# Altium schematic symbol library SCH - MPU - TI - TI AM62x ALW.SchLib: 1 symbol
Pins are listed as number, name and electrical type; pins without a type are passive.

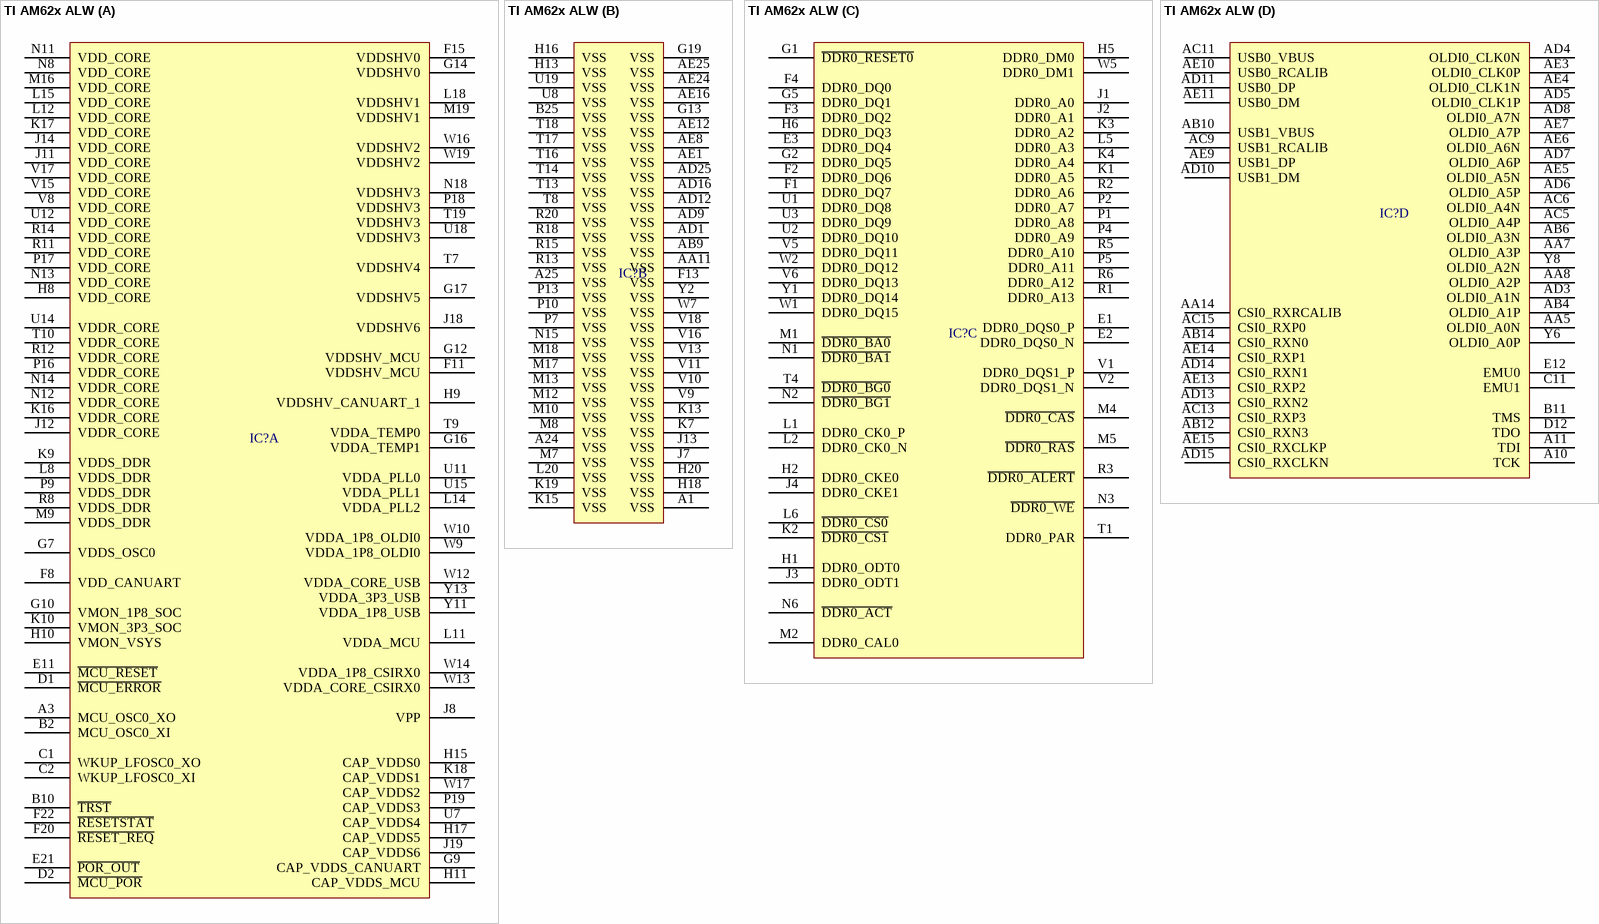
[diagram p0: symbol TI AM62x ALW]

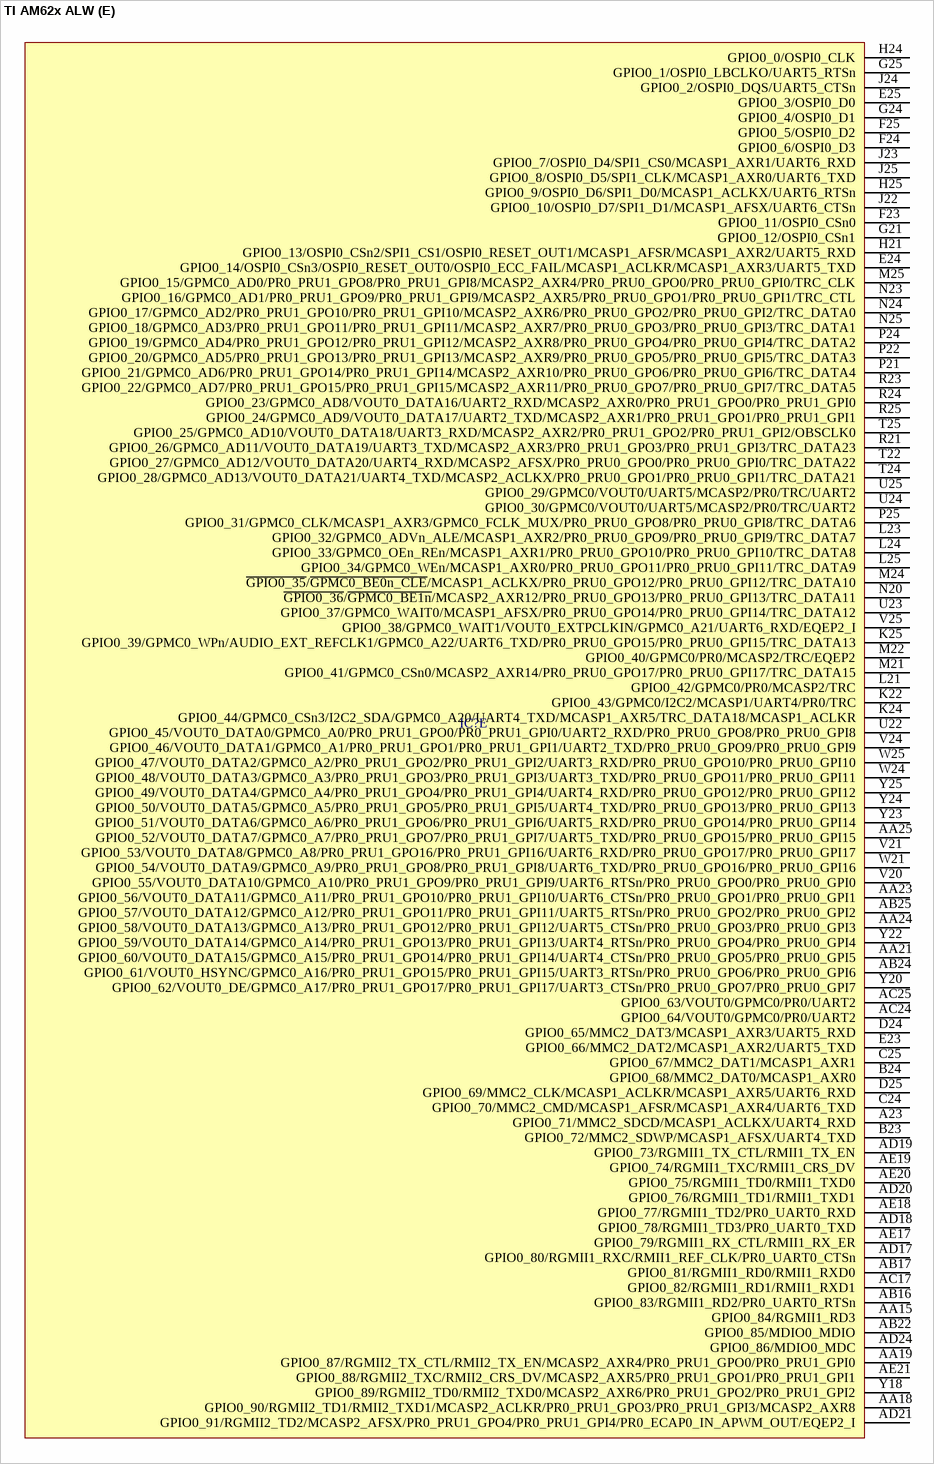
[diagram p1: symbol TI AM62x ALW]

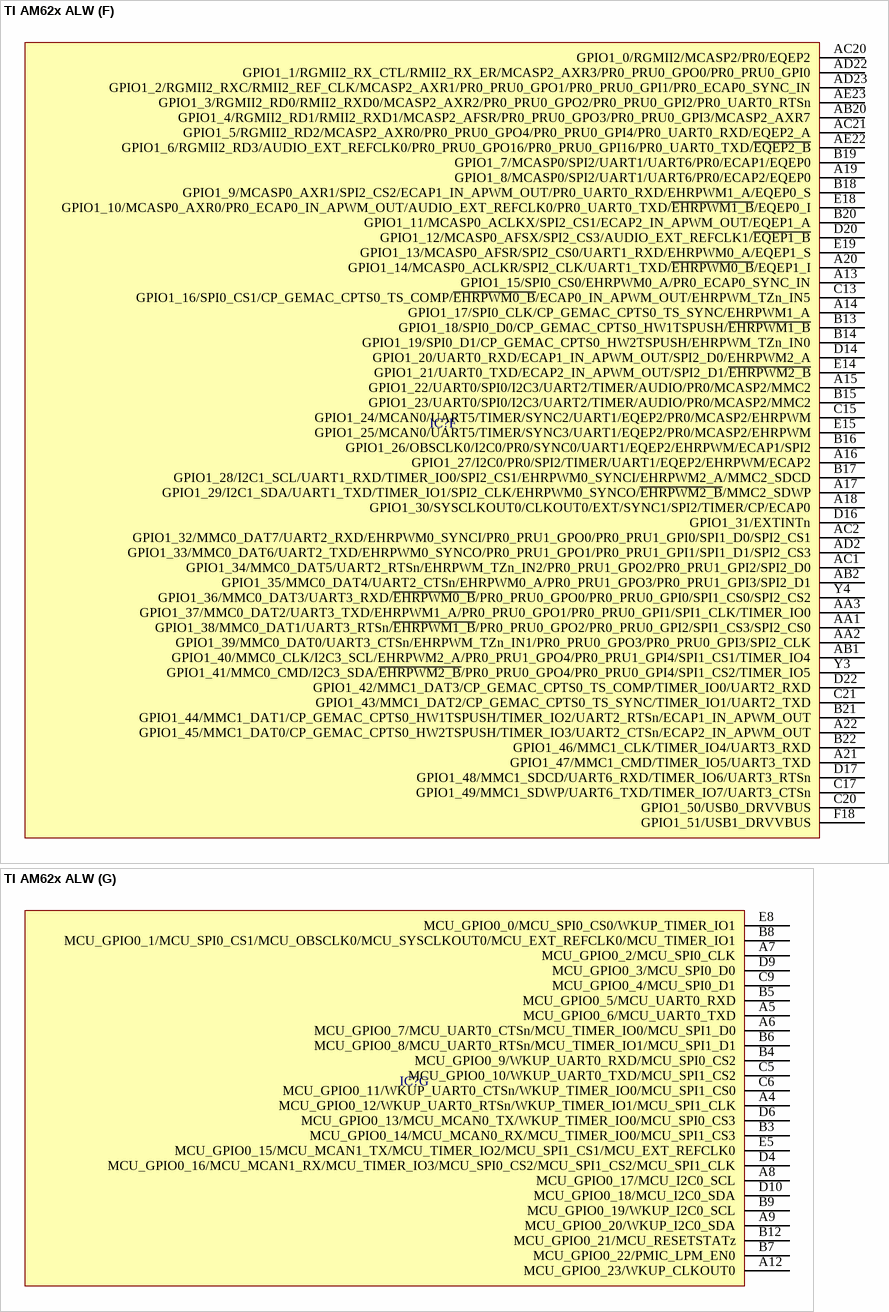
[diagram p2: symbol TI AM62x ALW]

## TI AM62x ALW
designator IC?
part A pins: A3 MCU_OSC0_XO, B2 MCU_OSC0_XI, B10 ~{TRST}, C1 WKUP_LFOSC0_XO, C2 WKUP_LFOSC0_XI, D1 ~{MCU_ERROR}, D2 ~{MCU_POR}, E11 ~{MCU_RESET}, E21 ~{POR_OUT}, F8 VDD_CANUART, F11 VDDSHV_MCU, F15 VDDSHV0, F20 ~{RESET_REQ}, F22 ~{RESETSTAT}, G7 VDDS_OSC0, G9 CAP_VDDS_CANUART, G10 VMON_1P8_SOC, G12 VDDSHV_MCU, G14 VDDSHV0, G16 VDDA_TEMP1, G17 VDDSHV5, H8 VDD_CORE, H9 VDDSHV_CANUART_1, H10 VMON_VSYS, H11 CAP_VDDS_MCU, H15 CAP_VDDS0, H17 CAP_VDDS5, J8 VPP, J11 VDD_CORE, J12 VDDR_CORE, J14 VDD_CORE, J18 VDDSHV6, J19 CAP_VDDS6, K9 VDDS_DDR, K10 VMON_3P3_SOC, K16 VDDR_CORE, K17 VDD_CORE, K18 CAP_VDDS1, L8 VDDS_DDR, L11 VDDA_MCU, L12 VDD_CORE, L14 VDDA_PLL2, L15 VDD_CORE, L18 VDDSHV1, M9 VDDS_DDR, M16 VDD_CORE, M19 VDDSHV1, N8 VDD_CORE, N11 VDD_CORE, N12 VDDR_CORE, N13 VDD_CORE, N14 VDDR_CORE, N18 VDDSHV3, P9 VDDS_DDR, P16 VDDR_CORE, P17 VDD_CORE, P18 VDDSHV3, P19 CAP_VDDS3, R8 VDDS_DDR, R11 VDD_CORE, R12 VDDR_CORE, R14 VDD_CORE, T7 VDDSHV4, T9 VDDA_TEMP0, T10 VDDR_CORE, T19 VDDSHV3, U7 CAP_VDDS4, U11 VDDA_PLL0, U12 VDD_CORE, U14 VDDR_CORE, U15 VDDA_PLL1, U18 VDDSHV3, V8 VDD_CORE, V15 VDD_CORE, V17 VDD_CORE, W9 VDDA_1P8_OLDI0, W10 VDDA_1P8_OLDI0, W12 VDDA_CORE_USB, W13 VDDA_CORE_CSIRX0, W14 VDDA_1P8_CSIRX0, W16 VDDSHV2, W17 CAP_VDDS2, W19 VDDSHV2, Y11 VDDA_1P8_USB, Y13 VDDA_3P3_USB
part B pins: A1 VSS, A24 VSS, A25 VSS, AA11 VSS, AB9 VSS, AD1 VSS, AD9 VSS, AD12 VSS, AD16 VSS, AD25 VSS, AE1 VSS, AE8 VSS, AE12 VSS, AE16 VSS, AE24 VSS, AE25 VSS, B25 VSS, F13 VSS, G13 VSS, G19 VSS, H13 VSS, H16 VSS, H18 VSS, H20 VSS, J7 VSS, J13 VSS, K7 VSS, K13 VSS, K15 VSS, K19 VSS, L20 VSS, M7 VSS, M8 VSS, M10 VSS, M12 VSS, M13 VSS, M17 VSS, M18 VSS, N15 VSS, P7 VSS, P10 VSS, P13 VSS, R13 VSS, R15 VSS, R18 VSS, R20 VSS, T8 VSS, T13 VSS, T14 VSS, T16 VSS, T17 VSS, T18 VSS, U8 VSS, U19 VSS, V9 VSS, V10 VSS, V11 VSS, V13 VSS, V16 VSS, V18 VSS, W7 VSS, Y2 VSS
part C pins: E1 DDR0_DQS0_P, E2 DDR0_DQS0_N, E3 DDR0_DQ4, F1 DDR0_DQ7, F2 DDR0_DQ6, F3 DDR0_DQ2, F4 DDR0_DQ0, G1 ~{DDR0_RESET0}, G2 DDR0_DQ5, G5 DDR0_DQ1, H1 DDR0_ODT0, H2 DDR0_CKE0, H5 DDR0_DM0, H6 DDR0_DQ3, J1 DDR0_A0, J2 DDR0_A1, J3 DDR0_ODT1, J4 DDR0_CKE1, K1 DDR0_A5, K2 ~{DDR0_CS1}, K3 DDR0_A2, K4 DDR0_A4, L1 DDR0_CK0_P, L2 DDR0_CK0_N, L5 DDR0_A3, L6 ~{DDR0_CS0}, M1 ~{DDR0_BA0}, M2 DDR0_CAL0, M4 ~{DDR0_CAS}, M5 ~{DDR0_RAS}, N1 ~{DDR0_BA1}, N2 ~{DDR0_BG1}, N3 ~{DDR0_WE}, N6 ~{DDR0_ACT}, P1 DDR0_A8, P2 DDR0_A7, P4 DDR0_A9, P5 DDR0_A11, R1 DDR0_A13, R2 DDR0_A6, R3 ~{DDR0_ALERT}, R5 DDR0_A10, R6 DDR0_A12, T1 DDR0_PAR, T4 ~{DDR0_BG0}, U1 DDR0_DQ8, U2 DDR0_DQ10, U3 DDR0_DQ9, V1 DDR0_DQS1_P, V2 DDR0_DQS1_N, V5 DDR0_DQ11, V6 DDR0_DQ13, W1 DDR0_DQ15, W2 DDR0_DQ12, W5 DDR0_DM1, Y1 DDR0_DQ14
part D pins: A10 TCK, A11 TDI, AA5 OLDI0_A0N, AA7 OLDI0_A3P, AA8 OLDI0_A2P, AA14 CSI0_RXRCALIB, AB4 OLDI0_A1P, AB6 OLDI0_A3N, AB10 USB1_VBUS, AB12 CSI0_RXN3, AB14 CSI0_RXN0, AC5 OLDI0_A4P, AC6 OLDI0_A4N, AC9 USB1_RCALIB, AC11 USB0_VBUS, AC13 CSI0_RXP3, AC15 CSI0_RXP0, AD3 OLDI0_A1N, AD4 OLDI0_CLK0N, AD5 OLDI0_CLK1P, AD6 OLDI0_A5P, AD7 OLDI0_A6P, AD8 OLDI0_A7N, AD10 USB1_DM, AD11 USB0_DP, AD13 CSI0_RXN2, AD14 CSI0_RXN1, AD15 CSI0_RXCLKN, AE3 OLDI0_CLK0P, AE4 OLDI0_CLK1N, AE5 OLDI0_A5N, AE6 OLDI0_A6N, AE7 OLDI0_A7P, AE9 USB1_DP, AE10 USB0_RCALIB, AE11 USB0_DM, AE13 CSI0_RXP2, AE14 CSI0_RXP1, AE15 CSI0_RXCLKP, B11 TMS, C11 EMU1, D12 TDO, E12 EMU0, Y6 OLDI0_A0P, Y8 OLDI0_A2N
part E pins: A23 GPIO0_71/MMC2_SDCD/MCASP1_ACLKX/UART4_RXD, AA15 GPIO0_84/RGMII1_RD3, AA18 GPIO0_90/RGMII2_TD1/RMII2_TXD1/MCASP2_ACLKR/PR0_PRU1_GPO3/PR0_PRU1_GPI3/MCASP2_AXR8, AA19 GPIO0_87/RGMII2_TX_CTL/RMII2_TX_EN/MCASP2_AXR4/PR0_PRU1_GPO0/PR0_PRU1_GPI0, AA21 GPIO0_60/VOUT0_DATA15/GPMC0_A15/PR0_PRU1_GPO14/PR0_PRU1_GPI14/UART4_CTSn/PR0_PRU0_GPO5/PR0_PRU0_GPI5, AA23 GPIO0_56/VOUT0_DATA11/GPMC0_A11/PR0_PRU1_GPO10/PR0_PRU1_GPI10/UART6_CTSn/PR0_PRU0_GPO1/PR0_PRU0_GPI1, AA24 GPIO0_58/VOUT0_DATA13/GPMC0_A13/PR0_PRU1_GPO12/PR0_PRU1_GPI12/UART5_CTSn/PR0_PRU0_GPO3/PR0_PRU0_GPI3, AA25 GPIO0_52/VOUT0_DATA7/GPMC0_A7/PR0_PRU1_GPO7/PR0_PRU1_GPI7/UART5_TXD/PR0_PRU0_GPO15/PR0_PRU0_GPI15, AB16 GPIO0_83/RGMII1_RD2/PR0_UART0_RTSn, AB17 GPIO0_81/RGMII1_RD0/RMII1_RXD0, AB22 GPIO0_85/MDIO0_MDIO, AB24 GPIO0_61/VOUT0_HSYNC/GPMC0_A16/PR0_PRU1_GPO15/PR0_PRU1_GPI15/UART3_RTSn/PR0_PRU0_GPO6/PR0_PRU0_GPI6, AB25 GPIO0_57/VOUT0_DATA12/GPMC0_A12/PR0_PRU1_GPO11/PR0_PRU1_GPI11/UART5_RTSn/PR0_PRU0_GPO2/PR0_PRU0_GPI2, AC17 GPIO0_82/RGMII1_RD1/RMII1_RXD1, AC24 GPIO0_64/VOUT0/GPMC0/PR0/UART2, AC25 GPIO0_63/VOUT0/GPMC0/PR0/UART2, AD17 GPIO0_80/RGMII1_RXC/RMII1_REF_CLK/PR0_UART0_CTSn, AD18 GPIO0_78/RGMII1_TD3/PR0_UART0_TXD, AD19 GPIO0_73/RGMII1_TX_CTL/RMII1_TX_EN, AD20 GPIO0_76/RGMII1_TD1/RMII1_TXD1, AD21 GPIO0_91/RGMII2_TD2/MCASP2_AFSX/PR0_PRU1_GPO4/PR0_PRU1_GPI4/PR0_ECAP0_IN_APWM_OUT/EQEP2_I, AD24 GPIO0_86/MDIO0_MDC, AE17 GPIO0_79/RGMII1_RX_CTL/RMII1_RX_ER, AE18 GPIO0_77/RGMII1_TD2/PR0_UART0_RXD, AE19 GPIO0_74/RGMII1_TXC/RMII1_CRS_DV, AE20 GPIO0_75/RGMII1_TD0/RMII1_TXD0, AE21 GPIO0_88/RGMII2_TXC/RMII2_CRS_DV/MCASP2_AXR5/PR0_PRU1_GPO1/PR0_PRU1_GPI1, B23 GPIO0_72/MMC2_SDWP/MCASP1_AFSX/UART4_TXD, B24 GPIO0_68/MMC2_DAT0/MCASP1_AXR0, C24 GPIO0_70/MMC2_CMD/MCASP1_AFSR/MCASP1_AXR4/UART6_TXD, C25 GPIO0_67/MMC2_DAT1/MCASP1_AXR1, D24 GPIO0_65/MMC2_DAT3/MCASP1_AXR3/UART5_RXD, D25 GPIO0_69/MMC2_CLK/MCASP1_ACLKR/MCASP1_AXR5/UART6_RXD, E23 GPIO0_66/MMC2_DAT2/MCASP1_AXR2/UART5_TXD, E24 GPIO0_14/OSPI0_CSn3/OSPI0_RESET_OUT0/OSPI0_ECC_FAIL/MCASP1_ACLKR/MCASP1_AXR3/UART5_TXD, E25 GPIO0_3/OSPI0_D0, F23 GPIO0_11/OSPI0_CSn0, F24 GPIO0_6/OSPI0_D3, F25 GPIO0_5/OSPI0_D2, G21 GPIO0_12/OSPI0_CSn1, G24 GPIO0_4/OSPI0_D1, G25 GPIO0_1/OSPI0_LBCLKO/UART5_RTSn, H21 GPIO0_13/OSPI0_CSn2/SPI1_CS1/OSPI0_RESET_OUT1/MCASP1_AFSR/MCASP1_AXR2/UART5_RXD, H24 GPIO0_0/OSPI0_CLK, H25 GPIO0_9/OSPI0_D6/SPI1_D0/MCASP1_ACLKX/UART6_RTSn, J22 GPIO0_10/OSPI0_D7/SPI1_D1/MCASP1_AFSX/UART6_CTSn, J23 GPIO0_7/OSPI0_D4/SPI1_CS0/MCASP1_AXR1/UART6_RXD, J24 GPIO0_2/OSPI0_DQS/UART5_CTSn, J25 GPIO0_8/OSPI0_D5/SPI1_CLK/MCASP1_AXR0/UART6_TXD, K22 GPIO0_43/GPMC0/I2C2/MCASP1/UART4/PR0/TRC, K24 GPIO0_44/GPMC0_CSn3/I2C2_SDA/GPMC0_A20/UART4_TXD/MCASP1_AXR5/TRC_DATA18/MCASP1_ACLKR, K25 GPIO0_39/GPMC0_WPn/AUDIO_EXT_REFCLK1/GPMC0_A22/UART6_TXD/PR0_PRU0_GPO15/PR0_PRU0_GPI15/TRC_DATA13, L21 GPIO0_42/GPMC0/PR0/MCASP2/TRC, L23 GPIO0_32/GPMC0_ADVn_ALE/MCASP1_AXR2/PR0_PRU0_GPO9/PR0_PRU0_GPI9/TRC_DATA7, L24 GPIO0_33/GPMC0_OEn_REn/MCASP1_AXR1/PR0_PRU0_GPO10/PR0_PRU0_GPI10/TRC_DATA8, L25 GPIO0_34/GPMC0_WEn/MCASP1_AXR0/PR0_PRU0_GPO11/PR0_PRU0_GPI11/TRC_DATA9, M21 GPIO0_41/GPMC0_CSn0/MCASP2_AXR14/PR0_PRU0_GPO17/PR0_PRU0_GPI17/TRC_DATA15, M22 GPIO0_40/GPMC0/PR0/MCASP2/TRC/EQEP2, M24 ~{GPIO0_35}/~{GPMC0_BE0n_CLE}/MCASP1_ACLKX/PR0_PRU0_GPO12/PR0_PRU0_GPI12/TRC_DATA10, M25 GPIO0_15/GPMC0_AD0/PR0_PRU1_GPO8/PR0_PRU1_GPI8/MCASP2_AXR4/PR0_PRU0_GPO0/PR0_PRU0_GPI0/TRC_CLK, N20 ~{GPIO0_36}/~{GPMC0_BE1n}/MCASP2_AXR12/PR0_PRU0_GPO13/PR0_PRU0_GPI13/TRC_DATA11, N23 GPIO0_16/GPMC0_AD1/PR0_PRU1_GPO9/PR0_PRU1_GPI9/MCASP2_AXR5/PR0_PRU0_GPO1/PR0_PRU0_GPI1/TRC_CTL, N24 GPIO0_17/GPMC0_AD2/PR0_PRU1_GPO10/PR0_PRU1_GPI10/MCASP2_AXR6/PR0_PRU0_GPO2/PR0_PRU0_GPI2/TRC_DATA0, N25 GPIO0_18/GPMC0_AD3/PR0_PRU1_GPO11/PR0_PRU1_GPI11/MCASP2_AXR7/PR0_PRU0_GPO3/PR0_PRU0_GPI3/TRC_DATA1, P21 GPIO0_21/GPMC0_AD6/PR0_PRU1_GPO14/PR0_PRU1_GPI14/MCASP2_AXR10/PR0_PRU0_GPO6/PR0_PRU0_GPI6/TRC_DATA4, P22 GPIO0_20/GPMC0_AD5/PR0_PRU1_GPO13/PR0_PRU1_GPI13/MCASP2_AXR9/PR0_PRU0_GPO5/PR0_PRU0_GPI5/TRC_DATA3, P24 GPIO0_19/GPMC0_AD4/PR0_PRU1_GPO12/PR0_PRU1_GPI12/MCASP2_AXR8/PR0_PRU0_GPO4/PR0_PRU0_GPI4/TRC_DATA2, P25 GPIO0_31/GPMC0_CLK/MCASP1_AXR3/GPMC0_FCLK_MUX/PR0_PRU0_GPO8/PR0_PRU0_GPI8/TRC_DATA6, R21 GPIO0_26/GPMC0_AD11/VOUT0_DATA19/UART3_TXD/MCASP2_AXR3/PR0_PRU1_GPO3/PR0_PRU1_GPI3/TRC_DATA23, R23 GPIO0_22/GPMC0_AD7/PR0_PRU1_GPO15/PR0_PRU1_GPI15/MCASP2_AXR11/PR0_PRU0_GPO7/PR0_PRU0_GPI7/TRC_DATA5, R24 GPIO0_23/GPMC0_AD8/VOUT0_DATA16/UART2_RXD/MCASP2_AXR0/PR0_PRU1_GPO0/PR0_PRU1_GPI0, R25 GPIO0_24/GPMC0_AD9/VOUT0_DATA17/UART2_TXD/MCASP2_AXR1/PR0_PRU1_GPO1/PR0_PRU1_GPI1, T22 GPIO0_27/GPMC0_AD12/VOUT0_DATA20/UART4_RXD/MCASP2_AFSX/PR0_PRU0_GPO0/PR0_PRU0_GPI0/TRC_DATA22, T24 GPIO0_28/GPMC0_AD13/VOUT0_DATA21/UART4_TXD/MCASP2_ACLKX/PR0_PRU0_GPO1/PR0_PRU0_GPI1/TRC_DATA21, T25 GPIO0_25/GPMC0_AD10/VOUT0_DATA18/UART3_RXD/MCASP2_AXR2/PR0_PRU1_GPO2/PR0_PRU1_GPI2/OBSCLK0, U22 GPIO0_45/VOUT0_DATA0/GPMC0_A0/PR0_PRU1_GPO0/PR0_PRU1_GPI0/UART2_RXD/PR0_PRU0_GPO8/PR0_PRU0_GPI8, U23 GPIO0_37/GPMC0_WAIT0/MCASP1_AFSX/PR0_PRU0_GPO14/PR0_PRU0_GPI14/TRC_DATA12, U24 GPIO0_30/GPMC0/VOUT0/UART5/MCASP2/PR0/TRC/UART2, U25 GPIO0_29/GPMC0/VOUT0/UART5/MCASP2/PR0/TRC/UART2, V20 GPIO0_55/VOUT0_DATA10/GPMC0_A10/PR0_PRU1_GPO9/PR0_PRU1_GPI9/UART6_RTSn/PR0_PRU0_GPO0/PR0_PRU0_GPI0, V21 GPIO0_53/VOUT0_DATA8/GPMC0_A8/PR0_PRU1_GPO16/PR0_PRU1_GPI16/UART6_RXD/PR0_PRU0_GPO17/PR0_PRU0_GPI17, V24 GPIO0_46/VOUT0_DATA1/GPMC0_A1/PR0_PRU1_GPO1/PR0_PRU1_GPI1/UART2_TXD/PR0_PRU0_GPO9/PR0_PRU0_GPI9, V25 GPIO0_38/GPMC0_WAIT1/VOUT0_EXTPCLKIN/GPMC0_A21/UART6_RXD/EQEP2_I, W21 GPIO0_54/VOUT0_DATA9/GPMC0_A9/PR0_PRU1_GPO8/PR0_PRU1_GPI8/UART6_TXD/PR0_PRU0_GPO16/PR0_PRU0_GPI16, W24 GPIO0_48/VOUT0_DATA3/GPMC0_A3/PR0_PRU1_GPO3/PR0_PRU1_GPI3/UART3_TXD/PR0_PRU0_GPO11/PR0_PRU0_GPI11, W25 GPIO0_47/VOUT0_DATA2/GPMC0_A2/PR0_PRU1_GPO2/PR0_PRU1_GPI2/UART3_RXD/PR0_PRU0_GPO10/PR0_PRU0_GPI10, Y18 GPIO0_89/RGMII2_TD0/RMII2_TXD0/MCASP2_AXR6/PR0_PRU1_GPO2/PR0_PRU1_GPI2, Y20 GPIO0_62/VOUT0_DE/GPMC0_A17/PR0_PRU1_GPO17/PR0_PRU1_GPI17/UART3_CTSn/PR0_PRU0_GPO7/PR0_PRU0_GPI7, Y22 GPIO0_59/VOUT0_DATA14/GPMC0_A14/PR0_PRU1_GPO13/PR0_PRU1_GPI13/UART4_RTSn/PR0_PRU0_GPO4/PR0_PRU0_GPI4, Y23 GPIO0_51/VOUT0_DATA6/GPMC0_A6/PR0_PRU1_GPO6/PR0_PRU1_GPI6/UART5_RXD/PR0_PRU0_GPO14/PR0_PRU0_GPI14, Y24 GPIO0_50/VOUT0_DATA5/GPMC0_A5/PR0_PRU1_GPO5/PR0_PRU1_GPI5/UART4_TXD/PR0_PRU0_GPO13/PR0_PRU0_GPI13, Y25 GPIO0_49/VOUT0_DATA4/GPMC0_A4/PR0_PRU1_GPO4/PR0_PRU1_GPI4/UART4_RXD/PR0_PRU0_GPO12/PR0_PRU0_GPI12
part F pins: A13 GPIO1_15/SPI0_CS0/EHRPWM0_A/PR0_ECAP0_SYNC_IN, A14 GPIO1_17/SPI0_CLK/CP_GEMAC_CPTS0_TS_SYNC/EHRPWM1_A, A15 GPIO1_22/UART0/SPI0/I2C3/UART2/TIMER/AUDIO/PR0/MCASP2/MMC2, A16 GPIO1_27/I2C0/PR0/SPI2/TIMER/UART1/EQEP2/EHRPWM/ECAP2, A17 GPIO1_29/I2C1_SDA/UART1_TXD/TIMER_IO1/SPI2_CLK/EHRPWM0_SYNCO/~{EHRPWM2_B}/MMC2_SDWP, A18 GPIO1_30/SYSCLKOUT0/CLKOUT0/EXT/SYNC1/SPI2/TIMER/CP/ECAP0, A19 GPIO1_8/MCASP0/SPI2/UART1/UART6/PR0/ECAP2/EQEP0, A20 GPIO1_14/MCASP0_ACLKR/SPI2_CLK/UART1_TXD/~{EHRPWM0_B}/EQEP1_I, A21 GPIO1_47/MMC1_CMD/TIMER_IO5/UART3_TXD, A22 GPIO1_45/MMC1_DAT0/CP_GEMAC_CPTS0_HW2TSPUSH/TIMER_IO3/UART2_CTSn/ECAP2_IN_APWM_OUT, AA1 GPIO1_38/MMC0_DAT1/UART3_RTSn/~{EHRPWM1_B}/PR0_PRU0_GPO2/PR0_PRU0_GPI2/SPI1_CS3/SPI2_CS0, AA2 GPIO1_39/MMC0_DAT0/UART3_CTSn/EHRPWM_TZn_IN1/PR0_PRU0_GPO3/PR0_PRU0_GPI3/SPI2_CLK, AA3 GPIO1_37/MMC0_DAT2/UART3_TXD/EHRPWM1_A/PR0_PRU0_GPO1/PR0_PRU0_GPI1/SPI1_CLK/TIMER_IO0, AB1 GPIO1_40/MMC0_CLK/I2C3_SCL/EHRPWM2_A/PR0_PRU1_GPO4/PR0_PRU1_GPI4/SPI1_CS1/TIMER_IO4, AB2 GPIO1_35/MMC0_DAT4/UART2_CTSn/EHRPWM0_A/PR0_PRU1_GPO3/PR0_PRU1_GPI3/SPI2_D1, AB20 GPIO1_4/RGMII2_RD1/RMII2_RXD1/MCASP2_AFSR/PR0_PRU0_GPO3/PR0_PRU0_GPI3/MCASP2_AXR7, AC1 GPIO1_34/MMC0_DAT5/UART2_RTSn/EHRPWM_TZn_IN2/PR0_PRU1_GPO2/PR0_PRU1_GPI2/SPI2_D0, AC2 GPIO1_32/MMC0_DAT7/UART2_RXD/EHRPWM0_SYNCI/PR0_PRU1_GPO0/PR0_PRU1_GPI0/SPI1_D0/SPI2_CS1, AC20 GPIO1_0/RGMII2/MCASP2/PR0/EQEP2, AC21 GPIO1_5/RGMII2_RD2/MCASP2_AXR0/PR0_PRU0_GPO4/PR0_PRU0_GPI4/PR0_UART0_RXD/EQEP2_A, AD2 GPIO1_33/MMC0_DAT6/UART2_TXD/EHRPWM0_SYNCO/PR0_PRU1_GPO1/PR0_PRU1_GPI1/SPI1_D1/SPI2_CS3, AD22 GPIO1_1/RGMII2_RX_CTL/RMII2_RX_ER/MCASP2_AXR3/PR0_PRU0_GPO0/PR0_PRU0_GPI0, AD23 GPIO1_2/RGMII2_RXC/RMII2_REF_CLK/MCASP2_AXR1/PR0_PRU0_GPO1/PR0_PRU0_GPI1/PR0_ECAP0_SYNC_IN, AE22 GPIO1_6/RGMII2_RD3/AUDIO_EXT_REFCLK0/PR0_PRU0_GPO16/PR0_PRU0_GPI16/PR0_UART0_TXD/~{EQEP2_B}, AE23 GPIO1_3/RGMII2_RD0/RMII2_RXD0/MCASP2_AXR2/PR0_PRU0_GPO2/PR0_PRU0_GPI2/PR0_UART0_RTSn, B13 GPIO1_18/SPI0_D0/CP_GEMAC_CPTS0_HW1TSPUSH/~{EHRPWM1_B}, B14 GPIO1_19/SPI0_D1/CP_GEMAC_CPTS0_HW2TSPUSH/EHRPWM_TZn_IN0, B15 GPIO1_23/UART0/SPI0/I2C3/UART2/TIMER/AUDIO/PR0/MCASP2/MMC2, B16 GPIO1_26/OBSCLK0/I2C0/PR0/SYNC0/UART1/EQEP2/EHRPWM/ECAP1/SPI2, B17 GPIO1_28/I2C1_SCL/UART1_RXD/TIMER_IO0/SPI2_CS1/EHRPWM0_SYNCI/EHRPWM2_A/MMC2_SDCD, B18 GPIO1_9/MCASP0_AXR1/SPI2_CS2/ECAP1_IN_APWM_OUT/PR0_UART0_RXD/EHRPWM1_A/EQEP0_S, B19 GPIO1_7/MCASP0/SPI2/UART1/UART6/PR0/ECAP1/EQEP0, B20 GPIO1_11/MCASP0_ACLKX/SPI2_CS1/ECAP2_IN_APWM_OUT/EQEP1_A, B21 GPIO1_44/MMC1_DAT1/CP_GEMAC_CPTS0_HW1TSPUSH/TIMER_IO2/UART2_RTSn/ECAP1_IN_APWM_OUT, B22 GPIO1_46/MMC1_CLK/TIMER_IO4/UART3_RXD, C13 GPIO1_16/SPI0_CS1/CP_GEMAC_CPTS0_TS_COMP/~{EHRPWM0_B}/ECAP0_IN_APWM_OUT/EHRPWM_TZn_IN5, C15 GPIO1_24/MCAN0/UART5/TIMER/SYNC2/UART1/EQEP2/PR0/MCASP2/EHRPWM, C17 GPIO1_49/MMC1_SDWP/UART6_TXD/TIMER_IO7/UART3_CTSn, C20 GPIO1_50/USB0_DRVVBUS, C21 GPIO1_43/MMC1_DAT2/CP_GEMAC_CPTS0_TS_SYNC/TIMER_IO1/UART2_TXD, D14 GPIO1_20/UART0_RXD/ECAP1_IN_APWM_OUT/SPI2_D0/EHRPWM2_A, D16 GPIO1_31/EXTINTn, D17 GPIO1_48/MMC1_SDCD/UART6_RXD/TIMER_IO6/UART3_RTSn, D20 GPIO1_12/MCASP0_AFSX/SPI2_CS3/AUDIO_EXT_REFCLK1/~{EQEP1_B}, D22 GPIO1_42/MMC1_DAT3/CP_GEMAC_CPTS0_TS_COMP/TIMER_IO0/UART2_RXD, E14 GPIO1_21/UART0_TXD/ECAP2_IN_APWM_OUT/SPI2_D1/~{EHRPWM2_B}, E15 GPIO1_25/MCAN0/UART5/TIMER/SYNC3/UART1/EQEP2/PR0/MCASP2/EHRPWM, E18 GPIO1_10/MCASP0_AXR0/PR0_ECAP0_IN_APWM_OUT/AUDIO_EXT_REFCLK0/PR0_UART0_TXD/~{EHRPWM1_B}/EQEP0_I, E19 GPIO1_13/MCASP0_AFSR/SPI2_CS0/UART1_RXD/EHRPWM0_A/EQEP1_S, F18 GPIO1_51/USB1_DRVVBUS, Y3 GPIO1_41/MMC0_CMD/I2C3_SDA/~{EHRPWM2_B}/PR0_PRU0_GPO4/PR0_PRU0_GPI4/SPI1_CS2/TIMER_IO5, Y4 GPIO1_36/MMC0_DAT3/UART3_RXD/~{EHRPWM0_B}/PR0_PRU0_GPO0/PR0_PRU0_GPI0/SPI1_CS0/SPI2_CS2
part G pins: A4 MCU_GPIO0_12/WKUP_UART0_RTSn/WKUP_TIMER_IO1/MCU_SPI1_CLK, A5 MCU_GPIO0_6/MCU_UART0_TXD, A6 MCU_GPIO0_7/MCU_UART0_CTSn/MCU_TIMER_IO0/MCU_SPI1_D0, A7 MCU_GPIO0_2/MCU_SPI0_CLK, A8 MCU_GPIO0_17/MCU_I2C0_SCL, A9 MCU_GPIO0_20/WKUP_I2C0_SDA, A12 MCU_GPIO0_23/WKUP_CLKOUT0, B3 MCU_GPIO0_14/MCU_MCAN0_RX/MCU_TIMER_IO0/MCU_SPI1_CS3, B4 MCU_GPIO0_9/WKUP_UART0_RXD/MCU_SPI0_CS2, B5 MCU_GPIO0_5/MCU_UART0_RXD, B6 MCU_GPIO0_8/MCU_UART0_RTSn/MCU_TIMER_IO1/MCU_SPI1_D1, B7 MCU_GPIO0_22/PMIC_LPM_EN0, B8 MCU_GPIO0_1/MCU_SPI0_CS1/MCU_OBSCLK0/MCU_SYSCLKOUT0/MCU_EXT_REFCLK0/MCU_TIMER_IO1, B9 MCU_GPIO0_19/WKUP_I2C0_SCL, B12 MCU_GPIO0_21/MCU_RESETSTATz, C5 MCU_GPIO0_10/WKUP_UART0_TXD/MCU_SPI1_CS2, C6 MCU_GPIO0_11/WKUP_UART0_CTSn/WKUP_TIMER_IO0/MCU_SPI1_CS0, C9 MCU_GPIO0_4/MCU_SPI0_D1, D4 MCU_GPIO0_16/MCU_MCAN1_RX/MCU_TIMER_IO3/MCU_SPI0_CS2/MCU_SPI1_CS2/MCU_SPI1_CLK, D6 MCU_GPIO0_13/MCU_MCAN0_TX/WKUP_TIMER_IO0/MCU_SPI0_CS3, D9 MCU_GPIO0_3/MCU_SPI0_D0, D10 MCU_GPIO0_18/MCU_I2C0_SDA, E5 MCU_GPIO0_15/MCU_MCAN1_TX/MCU_TIMER_IO2/MCU_SPI1_CS1/MCU_EXT_REFCLK0, E8 MCU_GPIO0_0/MCU_SPI0_CS0/WKUP_TIMER_IO1